# Altium footprint library TO-263-8.PcbLib: 1 footprints
Each footprint in its own frame and in the unit in brackets; x right, y up, seen from the top. Pads: shape width x height; smd on the part's side, far side on the other; paste and mask are expansions set on the pad; w line width, h text height; cw(c..) or ccw(c..) is an arc to the next point about the centre after c.
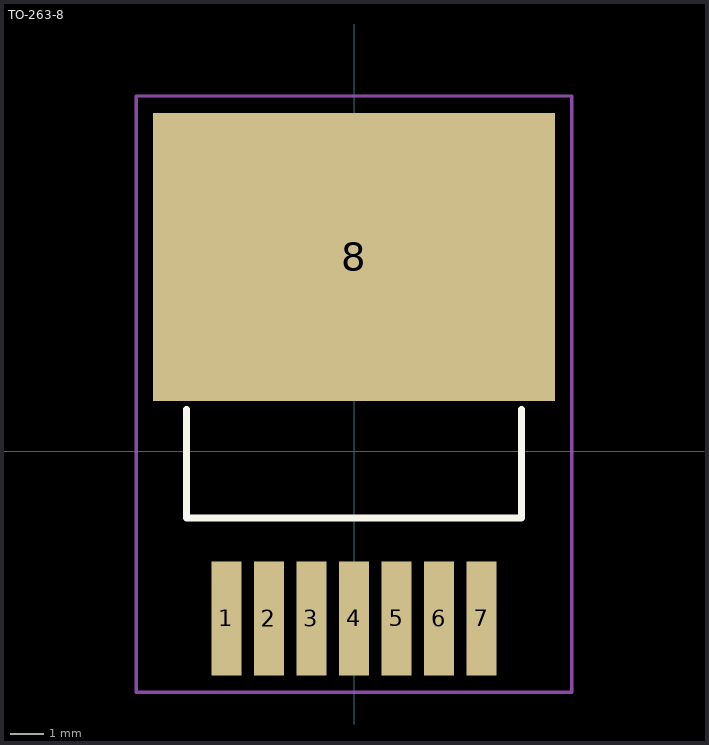
[diagram p0: the footprint, top view; thin cyan lines are the x and y axes]

## TO-263-8 [mm]
pads (8):
  rect 0.9x3.4 smd: 1(-3.81,-5) 2(-2.54,-5) 3(-1.27,-5) 4(0,-5) 5(1.27,-5) 6(2.54,-5) 7(3.81,-5)
  rect 12x8.6 smd: 8(0,5.8)
Top Overlay:
  lines w0.2: -5,1.25 -5,-2 5,-2 5,1.25
Top Courtyard:
  lines w0.1: -6.5,-7.2 -6.5,10.6 6.5,10.6 6.5,-7.2 -6.5,-7.2
3D body "TO-263-7L.STP": height 4.52, standoff -0.04, extent -5.167,-6.675 5.075,9.5